# Altium footprint library TO254P1009X445X1985-3.PcbLib: 1 footprints
Each footprint in its own frame and in the unit in brackets; x right, y up, seen from the top. Pads: shape width x height; smd on the part's side, far side on the other; paste and mask are expansions set on the pad; w line width, h text height; cw(c..) or ccw(c..) is an arc to the next point about the centre after c.
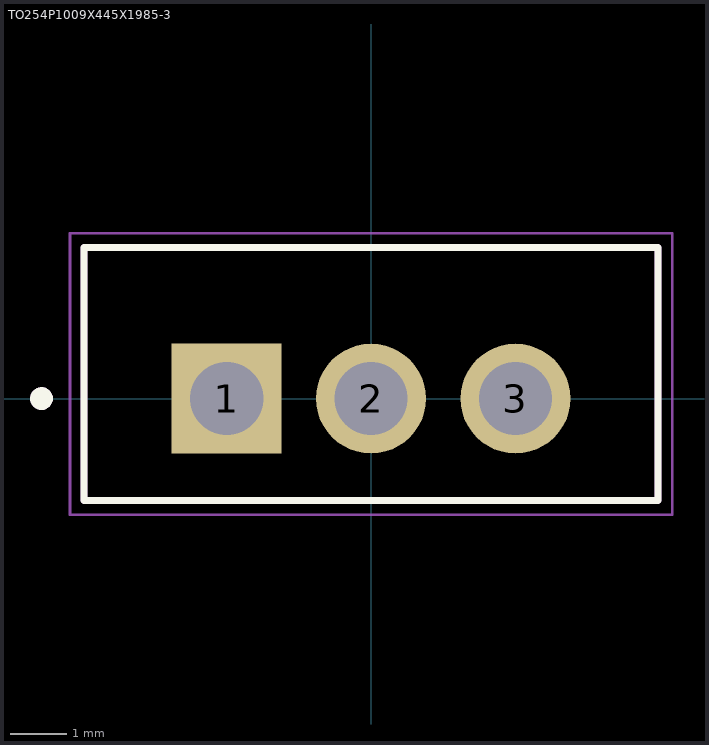
[diagram p0: the footprint, top view; thin cyan lines are the x and y axes]

## TO254P1009X445X1985-3 [mm]
height 19.85
pads (3):
  rect 1.935x1.935 / inner round 1.935 / far side rect 1.935x1.935 hole 1.29: 1(-2.54,0)
  round 1.935 hole 1.29: 2(0,0) 3(2.54,0)
Top Overlay:
  circle w0.2: c-5.797,0 r0.1
  lines w0.127: -5.048,-1.793 -5.048,2.658 5.048,2.658 5.048,-1.793 -5.048,-1.793
Mechanical 13:
  circle w0.2: c-5.797,0 r0.1
  lines w0.127: -5.048,-1.793 -5.048,2.658 5.048,2.658 5.048,-1.793 -5.048,-1.793
Mechanical 15:
  lines w0.05: -5.298,-2.043 -5.298,2.907 5.298,2.907 5.298,-2.043 -5.298,-2.043
3D body "step_temp.STEP": height 19.84, standoff -10.19, extent -5.048,-1.791 5.048,2.654